# Altium footprint library MC_Brauer_H50_2B.PcbLib: 1 footprints
Each footprint in its own frame and in the unit in brackets; x right, y up, seen from the top. Pads: shape width x height; smd on the part's side, far side on the other; paste and mask are expansions set on the pad; w line width, h text height; cw(c..) or ccw(c..) is an arc to the next point about the centre after c.
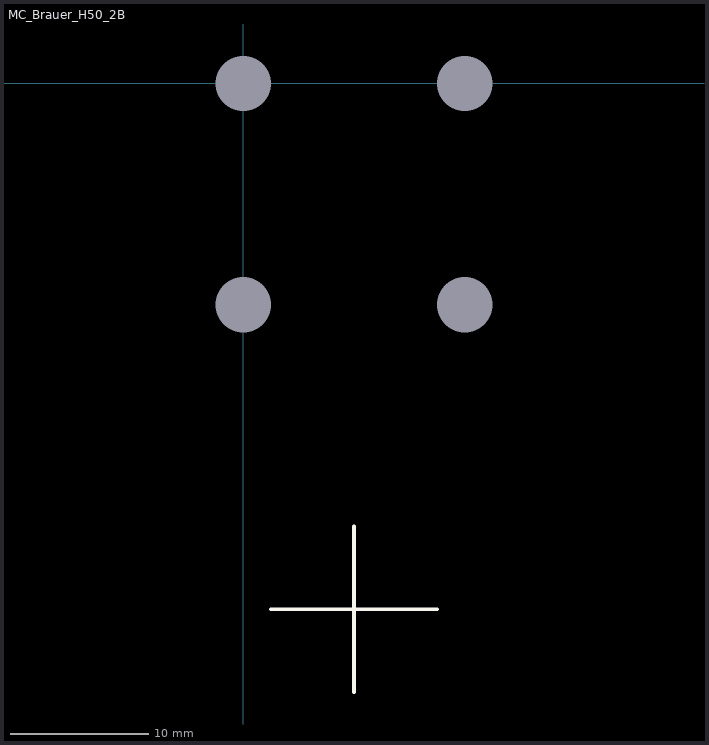
[diagram p0: the footprint, top view; thin cyan lines are the x and y axes]

## MC_Brauer_H50_2B [mm] "Brauer H50/2B Horizontal Toggle Clamp"
pads (4):
  round 0 hole 4 unplated mask+1.25: 0(0,-16) 0(0,0) 0(16,-16) 0(16,0)
Top Overlay:
  lines w0.254: 2,-38 14,-38 ; 8,-44 8,-32
3D body: height 24.89, standoff -0.71, extent -4,-44.588 20,33.3